# Altium schematic symbol library TS3USB3031RMGR.SchLib: 1 symbol
Pins are listed as number, name and electrical type; pins without a type are passive.

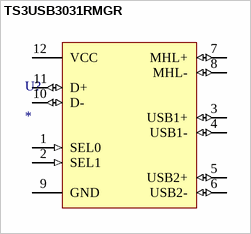
[diagram p0: symbol TS3USB3031RMGR]

## TS3USB3031RMGR
designator U?
Value: *
pins: 1 SEL0 (in), 2 SEL1 (in), 3 USB1+ (io), 4 USB1- (io), 5 USB2+ (io), 6 USB2- (io), 7 MHL+ (io), 8 MHL- (io), 9 GND (power), 10 D- (io), 11 D+ (io), 12 VCC (power)